# Altium schematic symbol library D_SOD523.SchLib: 1 symbol
Pins are listed as number, name and electrical type; pins without a type are passive.

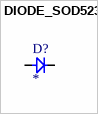
[diagram p0: symbol DIODE_SOD523]

## DIODE_SOD523
designator D?
Manufacturer: *; Manufacturer Part: *; Value: *; Voltage: *
footprint SOD523
pins: 1, 2